# Altium integrated library ON Semi Zener Diodes.IntLib: 1366 symbols (part 1 of 29)
Pins are listed as number, name and electrical type; pins without a type are passive.

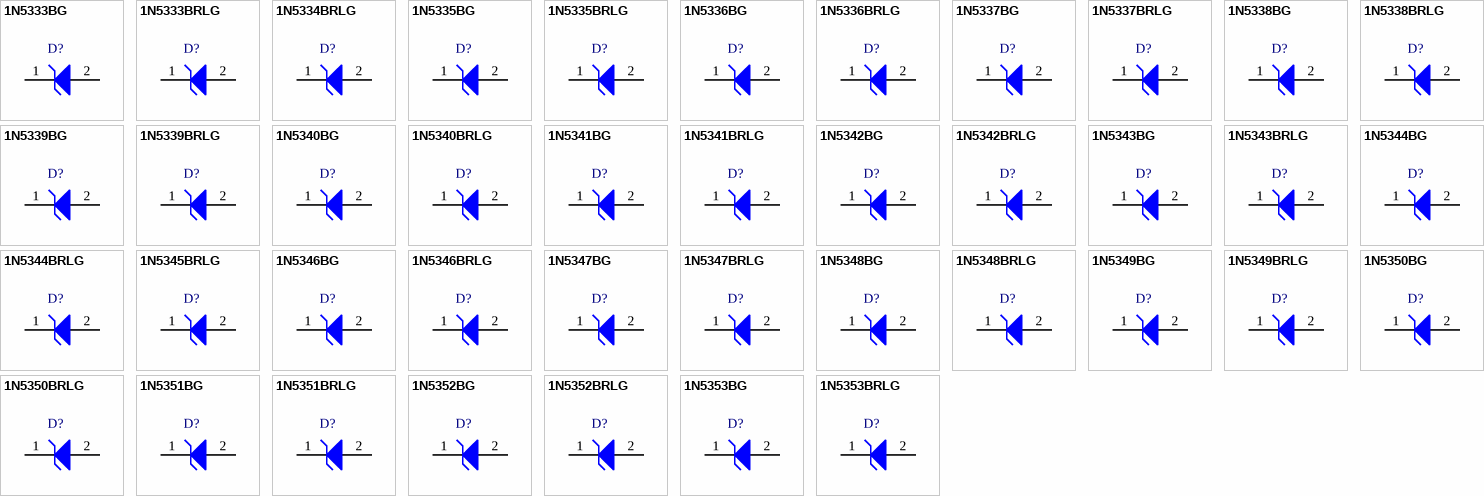
[diagram p0: symbols 1N5333BG to 1N5353BRLG]

## 1N5333BG
designator D?
5 W Zener Voltage Regulator, 2-Pin Surmetic(TM) 40, Pb-Free, Bulk Box; Manufacturer: On Semiconductor; PartNumber: 1N5333BG; P Max (W): 5; VZ Typ (V): 3.3; DatasheetVersion: Rev. 14; PackageVersion: Rev. O, 09/2005; PackageReference: SURMETIC40-2-017AA-01; PackageDescription: 2-Pin, Axial Lead, Diameter 3.49 mm; Supplier 1: Digi-Key; Supplier Part Number 1: 1N5333BGOS-ND; Supplier 2: Farnell; Supplier Part Number 2: 9557903; Supplier 3: Newark; Supplier Part Number 3: 42K2843; Supplier 4: Newark; Supplier Part Number 4: 39K0591; Supplier 5: Mouser; Supplier Part Number 5: 863-1N5333BG; Packing: Bulk Box; RoHS: Pb-Free; Mounting Technology: Through Hole; ComponentLink1Description: Manufacturer URL; ComponentLink1URL: http://www.onsemi.com/; ComponentLink2Description: Datasheet; ComponentLink2URL: http://www.onsemi.cn/pub_link/Collateral/1N5333B-D.PDF; ComponentLink3Description: Package Specification; ComponentLink3URL: http://www.onsemi.cn/pub_link/Collateral/017AA.PDF
footprint ONSC-SURMETIC40-2-017AA-01 (AXIAL, 2-Leads, Diameter 3.49mm)
pins: 1 K, 2 A

## 1N5333BRLG
designator D?
5 W Zener Voltage Regulator, 2-Pin Surmetic(TM) 40, Pb-Free, Tape and Reel; Manufacturer: On Semiconductor; PartNumber: 1N5333BRLG; P Max (W): 5; VZ Typ (V): 3.3; DatasheetVersion: Rev. 14; PackageVersion: Rev. O, 09/2005; PackageReference: SURMETIC40-2-017AA-01; PackageDescription: 2-Pin, Axial Lead, Diameter 3.49 mm; Supplier 1: Digi-Key; Supplier Part Number 1: 1N5333BRLGOSTR-ND; Supplier 2: Digi-Key; Supplier Part Number 2: 1N5333BRLGOSCT-ND; Supplier 3: Farnell; Supplier Part Number 3: 1899548; Supplier 4: Newark; Supplier Part Number 4: 42K2844; Supplier 5: Newark; Supplier Part Number 5: 10N9619; Supplier 6: Mouser; Supplier Part Number 6: 863-1N5333BRLG; Packing: Tape and Reel; RoHS: Pb-Free; Mounting Technology: Through Hole; ComponentLink1Description: Manufacturer URL; ComponentLink1URL: http://www.onsemi.com/; ComponentLink2Description: Datasheet; ComponentLink2URL: http://www.onsemi.cn/pub_link/Collateral/1N5333B-D.PDF; ComponentLink3Description: Package Specification; ComponentLink3URL: http://www.onsemi.cn/pub_link/Collateral/017AA.PDF
footprint ONSC-SURMETIC40-2-017AA-01 (AXIAL, 2-Leads, Diameter 3.49mm)
pins: 1 K, 2 A

## 1N5334BRLG
designator D?
5 W Zener Voltage Regulator, 2-Pin Surmetic(TM) 40, Pb-Free, Tape and Reel; Manufacturer: On Semiconductor; PartNumber: 1N5334BRLG; P Max (W): 5; VZ Typ (V): 3.6; DatasheetVersion: Rev. 14; PackageVersion: Rev. O, 09/2005; PackageReference: SURMETIC40-2-017AA-01; PackageDescription: 2-Pin, Axial Lead, Diameter 3.49 mm; Supplier 1: Digi-Key; Supplier Part Number 1: 1N5334BRLGOSTR-ND; Supplier 2: Digi-Key; Supplier Part Number 2: 1N5334BRLGOSCT-ND; Supplier 3: Farnell; Supplier Part Number 3: 2369363; Supplier 4: Farnell; Supplier Part Number 4: 1887113; Supplier 5: Newark; Supplier Part Number 5: 09R9751; Supplier 6: Mouser; Supplier Part Number 6: 863-1N5334BRLG; Packing: Tape and Reel; RoHS: Pb-Free; Mounting Technology: Through Hole; ComponentLink1Description: Manufacturer URL; ComponentLink1URL: http://www.onsemi.com/; ComponentLink2Description: Datasheet; ComponentLink2URL: http://www.onsemi.cn/pub_link/Collateral/1N5333B-D.PDF; ComponentLink3Description: Package Specification; ComponentLink3URL: http://www.onsemi.cn/pub_link/Collateral/017AA.PDF
footprint ONSC-SURMETIC40-2-017AA-01 (AXIAL, 2-Leads, Diameter 3.49mm)
pins: 1 K, 2 A

## 1N5335BG
designator D?
5 W Zener Voltage Regulator, 2-Pin Surmetic(TM) 40, Pb-Free, Bulk Box; Manufacturer: On Semiconductor; PartNumber: 1N5335BG; P Max (W): 5; VZ Typ (V): 3.9; DatasheetVersion: Rev. 14; PackageVersion: Rev. O, 09/2005; PackageReference: SURMETIC40-2-017AA-01; PackageDescription: 2-Pin, Axial Lead, Diameter 3.49 mm; Supplier 1: Digi-Key; Supplier Part Number 1: 1N5335BGOS-ND; Supplier 2: Farnell; Supplier Part Number 2: 9557920; Supplier 3: Newark; Supplier Part Number 3: 42K2847; Supplier 4: Mouser; Supplier Part Number 4: 863-1N5335BG; Packing: Bulk Box; RoHS: Pb-Free; Mounting Technology: Through Hole; ComponentLink1Description: Manufacturer URL; ComponentLink1URL: http://www.onsemi.com/; ComponentLink2Description: Datasheet; ComponentLink2URL: http://www.onsemi.cn/pub_link/Collateral/1N5333B-D.PDF; ComponentLink3Description: Package Specification; ComponentLink3URL: http://www.onsemi.cn/pub_link/Collateral/017AA.PDF
footprint ONSC-SURMETIC40-2-017AA-01 (AXIAL, 2-Leads, Diameter 3.49mm)
pins: 1 K, 2 A

## 1N5335BRLG
designator D?
5 W Zener Voltage Regulator, 2-Pin Surmetic(TM) 40, Pb-Free, Tape and Reel; Manufacturer: On Semiconductor; PartNumber: 1N5335BRLG; P Max (W): 5; VZ Typ (V): 3.9; DatasheetVersion: Rev. 14; PackageVersion: Rev. O, 09/2005; PackageReference: SURMETIC40-2-017AA-01; PackageDescription: 2-Pin, Axial Lead, Diameter 3.49 mm; Supplier 1: Digi-Key; Supplier Part Number 1: 1N5335BRLGOSTR-ND; Supplier 2: Digi-Key; Supplier Part Number 2: 1N5335BRLGOSCT-ND; Supplier 3: Farnell; Supplier Part Number 3: 2369364; Supplier 4: Newark; Supplier Part Number 4: 10N9620; Supplier 5: Mouser; Supplier Part Number 5: 863-1N5335BRLG; Packing: Tape and Reel; RoHS: Pb-Free; Mounting Technology: Through Hole; ComponentLink1Description: Manufacturer URL; ComponentLink1URL: http://www.onsemi.com/; ComponentLink2Description: Datasheet; ComponentLink2URL: http://www.onsemi.cn/pub_link/Collateral/1N5333B-D.PDF; ComponentLink3Description: Package Specification; ComponentLink3URL: http://www.onsemi.cn/pub_link/Collateral/017AA.PDF
footprint ONSC-SURMETIC40-2-017AA-01 (AXIAL, 2-Leads, Diameter 3.49mm)
pins: 1 K, 2 A

## 1N5336BG
designator D?
5 W Zener Voltage Regulator, 2-Pin Surmetic(TM) 40, Pb-Free, Bulk Box; Manufacturer: On Semiconductor; PartNumber: 1N5336BG; P Max (W): 5; VZ Typ (V): 4.3; DatasheetVersion: Rev. 14; PackageVersion: Rev. O, 09/2005; PackageReference: SURMETIC40-2-017AA-01; PackageDescription: 2-Pin, Axial Lead, Diameter 3.49 mm; Supplier 1: Digi-Key; Supplier Part Number 1: 1N5336BGOS-ND; Supplier 2: Farnell; Supplier Part Number 2: 9557938; Supplier 3: Newark; Supplier Part Number 3: 42K2849; Supplier 4: Mouser; Supplier Part Number 4: 863-1N5336BG; Packing: Bulk Box; RoHS: Pb-Free; Mounting Technology: Through Hole; ComponentLink1Description: Manufacturer URL; ComponentLink1URL: http://www.onsemi.com/; ComponentLink2Description: Datasheet; ComponentLink2URL: http://www.onsemi.cn/pub_link/Collateral/1N5333B-D.PDF; ComponentLink3Description: Package Specification; ComponentLink3URL: http://www.onsemi.cn/pub_link/Collateral/017AA.PDF
footprint ONSC-SURMETIC40-2-017AA-01 (AXIAL, 2-Leads, Diameter 3.49mm)
pins: 1 K, 2 A

## 1N5336BRLG
designator D?
5 W Zener Voltage Regulator, 2-Pin Surmetic(TM) 40, Pb-Free, Tape and Reel; Manufacturer: On Semiconductor; PartNumber: 1N5336BRLG; P Max (W): 5; VZ Typ (V): 4.3; DatasheetVersion: Rev. 14; PackageVersion: Rev. O, 09/2005; PackageReference: SURMETIC40-2-017AA-01; PackageDescription: 2-Pin, Axial Lead, Diameter 3.49 mm; Supplier 1: Digi-Key; Supplier Part Number 1: 1N5336BRLG-ND; Supplier 2: Newark; Supplier Part Number 2: 42K2850; Supplier 3: Mouser; Supplier Part Number 3: 863-1N5336BRLG; Packing: Tape and Reel; RoHS: Pb-Free; Mounting Technology: Through Hole; ComponentLink1Description: Manufacturer URL; ComponentLink1URL: http://www.onsemi.com/; ComponentLink2Description: Datasheet; ComponentLink2URL: http://www.onsemi.cn/pub_link/Collateral/1N5333B-D.PDF; ComponentLink3Description: Package Specification; ComponentLink3URL: http://www.onsemi.cn/pub_link/Collateral/017AA.PDF
footprint ONSC-SURMETIC40-2-017AA-01 (AXIAL, 2-Leads, Diameter 3.49mm)
pins: 1 K, 2 A

## 1N5337BG
designator D?
5 W Zener Voltage Regulator, 2-Pin Surmetic(TM) 40, Pb-Free, Bulk Box; Manufacturer: On Semiconductor; PartNumber: 1N5337BG; P Max (W): 5; VZ Typ (V): 4.7; DatasheetVersion: Rev. 14; PackageVersion: Rev. O, 09/2005; PackageReference: SURMETIC40-2-017AA-01; PackageDescription: 2-Pin, Axial Lead, Diameter 3.49 mm; Supplier 1: Digi-Key; Supplier Part Number 1: 1N5337BGOS-ND; Supplier 2: Farnell; Supplier Part Number 2: 9557946; Supplier 3: Newark; Supplier Part Number 3: 42K2851; Supplier 4: Mouser; Supplier Part Number 4: 863-1N5337BG; Packing: Bulk Box; RoHS: Pb-Free; Mounting Technology: Through Hole; ComponentLink1Description: Manufacturer URL; ComponentLink1URL: http://www.onsemi.com/; ComponentLink2Description: Datasheet; ComponentLink2URL: http://www.onsemi.cn/pub_link/Collateral/1N5333B-D.PDF; ComponentLink3Description: Package Specification; ComponentLink3URL: http://www.onsemi.cn/pub_link/Collateral/017AA.PDF
footprint ONSC-SURMETIC40-2-017AA-01 (AXIAL, 2-Leads, Diameter 3.49mm)
pins: 1 K, 2 A

## 1N5337BRLG
designator D?
5 W Zener Voltage Regulator, 2-Pin Surmetic(TM) 40, Pb-Free, Tape and Reel; Manufacturer: On Semiconductor; PartNumber: 1N5337BRLG; P Max (W): 5; VZ Typ (V): 4.7; DatasheetVersion: Rev. 14; PackageVersion: Rev. O, 09/2005; PackageReference: SURMETIC40-2-017AA-01; PackageDescription: 2-Pin, Axial Lead, Diameter 3.49 mm; Supplier 1: Digi-Key; Supplier Part Number 1: 1N5337BRLGOSTR-ND; Supplier 2: Digi-Key; Supplier Part Number 2: 1N5337BRLGOSCT-ND; Supplier 3: Farnell; Supplier Part Number 3: 2369365; Supplier 4: Newark; Supplier Part Number 4: 10N9621; Supplier 5: Newark; Supplier Part Number 5: 42K2852; Supplier 6: Mouser; Supplier Part Number 6: 863-1N5337BRLG; Packing: Tape and Reel; RoHS: Pb-Free; Mounting Technology: Through Hole; ComponentLink1Description: Manufacturer URL; ComponentLink1URL: http://www.onsemi.com/; ComponentLink2Description: Datasheet; ComponentLink2URL: http://www.onsemi.cn/pub_link/Collateral/1N5333B-D.PDF; ComponentLink3Description: Package Specification; ComponentLink3URL: http://www.onsemi.cn/pub_link/Collateral/017AA.PDF
footprint ONSC-SURMETIC40-2-017AA-01 (AXIAL, 2-Leads, Diameter 3.49mm)
pins: 1 K, 2 A

## 1N5338BG
designator D?
5 W Zener Voltage Regulator, 2-Pin Surmetic(TM) 40, Pb-Free, Bulk Box; Manufacturer: On Semiconductor; PartNumber: 1N5338BG; P Max (W): 5; VZ Typ (V): 5.1; DatasheetVersion: Rev. 14; PackageVersion: Rev. O, 09/2005; PackageReference: SURMETIC40-2-017AA-01; PackageDescription: 2-Pin, Axial Lead, Diameter 3.49 mm; Supplier 1: Digi-Key; Supplier Part Number 1: 1N5338BGOS-ND; Supplier 2: Farnell; Supplier Part Number 2: 9557954; Supplier 3: Newark; Supplier Part Number 3: 42K2853; Supplier 4: Mouser; Supplier Part Number 4: 863-1N5338BG; Packing: Bulk Box; RoHS: Pb-Free; Mounting Technology: Through Hole; ComponentLink1Description: Manufacturer URL; ComponentLink1URL: http://www.onsemi.com/; ComponentLink2Description: Datasheet; ComponentLink2URL: http://www.onsemi.cn/pub_link/Collateral/1N5333B-D.PDF; ComponentLink3Description: Package Specification; ComponentLink3URL: http://www.onsemi.cn/pub_link/Collateral/017AA.PDF
footprint ONSC-SURMETIC40-2-017AA-01 (AXIAL, 2-Leads, Diameter 3.49mm)
pins: 1 K, 2 A

## 1N5338BRLG
designator D?
5 W Zener Voltage Regulator, 2-Pin Surmetic(TM) 40, Pb-Free, Tape and Reel; Manufacturer: On Semiconductor; PartNumber: 1N5338BRLG; P Max (W): 5; VZ Typ (V): 5.1; DatasheetVersion: Rev. 14; PackageVersion: Rev. O, 09/2005; PackageReference: SURMETIC40-2-017AA-01; PackageDescription: 2-Pin, Axial Lead, Diameter 3.49 mm; Supplier 1: Digi-Key; Supplier Part Number 1: 1N5338BRLGOSTR-ND; Supplier 2: Digi-Key; Supplier Part Number 2: 1N5338BRLGOSCT-ND; Supplier 3: Farnell; Supplier Part Number 3: 2317463; Supplier 4: Farnell; Supplier Part Number 4: 1899549; Supplier 5: Newark; Supplier Part Number 5: 10N9622; Supplier 6: Newark; Supplier Part Number 6: 42K2854; Supplier 7: Mouser; Supplier Part Number 7: 863-1N5338BRLG; Packing: Tape and Reel; RoHS: Pb-Free; Mounting Technology: Through Hole; ComponentLink1Description: Manufacturer URL; ComponentLink1URL: http://www.onsemi.com/; ComponentLink2Description: Datasheet; ComponentLink2URL: http://www.onsemi.cn/pub_link/Collateral/1N5333B-D.PDF; ComponentLink3Description: Package Specification; ComponentLink3URL: http://www.onsemi.cn/pub_link/Collateral/017AA.PDF
footprint ONSC-SURMETIC40-2-017AA-01 (AXIAL, 2-Leads, Diameter 3.49mm)
pins: 1 K, 2 A

## 1N5339BG
designator D?
5 W Zener Voltage Regulator, 2-Pin Surmetic(TM) 40, Pb-Free, Bulk Box; Manufacturer: On Semiconductor; PartNumber: 1N5339BG; P Max (W): 5; VZ Typ (V): 5.6; DatasheetVersion: Rev. 14; PackageVersion: Rev. O, 09/2005; PackageReference: SURMETIC40-2-017AA-01; PackageDescription: 2-Pin, Axial Lead, Diameter 3.49 mm; Supplier 1: Digi-Key; Supplier Part Number 1: 1N5339BGOS-ND; Supplier 2: Farnell; Supplier Part Number 2: 9557962; Supplier 3: Newark; Supplier Part Number 3: 42K2855; Supplier 4: Mouser; Supplier Part Number 4: 863-1N5339BG; Packing: Bulk Box; RoHS: Pb-Free; Mounting Technology: Through Hole; ComponentLink1Description: Manufacturer URL; ComponentLink1URL: http://www.onsemi.com/; ComponentLink2Description: Datasheet; ComponentLink2URL: http://www.onsemi.cn/pub_link/Collateral/1N5333B-D.PDF; ComponentLink3Description: Package Specification; ComponentLink3URL: http://www.onsemi.cn/pub_link/Collateral/017AA.PDF
footprint ONSC-SURMETIC40-2-017AA-01 (AXIAL, 2-Leads, Diameter 3.49mm)
pins: 1 K, 2 A

## 1N5339BRLG
designator D?
5 W Zener Voltage Regulator, 2-Pin Surmetic(TM) 40, Pb-Free, Tape and Reel; Manufacturer: On Semiconductor; PartNumber: 1N5339BRLG; P Max (W): 5; VZ Typ (V): 5.6; DatasheetVersion: Rev. 14; PackageVersion: Rev. O, 09/2005; PackageReference: SURMETIC40-2-017AA-01; PackageDescription: 2-Pin, Axial Lead, Diameter 3.49 mm; Supplier 1: Digi-Key; Supplier Part Number 1: 1N5339BRLGOSTR-ND; Supplier 2: Digi-Key; Supplier Part Number 2: 1N5339BRLGOSCT-ND; Supplier 3: Farnell; Supplier Part Number 3: 2101822; Supplier 4: Newark; Supplier Part Number 4: 42K2856; Supplier 5: Newark; Supplier Part Number 5: 06R3480; Supplier 6: Mouser; Supplier Part Number 6: 863-1N5339BRLG; Packing: Tape and Reel; RoHS: Pb-Free; Mounting Technology: Through Hole; ComponentLink1Description: Manufacturer URL; ComponentLink1URL: http://www.onsemi.com/; ComponentLink2Description: Datasheet; ComponentLink2URL: http://www.onsemi.cn/pub_link/Collateral/1N5333B-D.PDF; ComponentLink3Description: Package Specification; ComponentLink3URL: http://www.onsemi.cn/pub_link/Collateral/017AA.PDF
footprint ONSC-SURMETIC40-2-017AA-01 (AXIAL, 2-Leads, Diameter 3.49mm)
pins: 1 K, 2 A

## 1N5340BG
designator D?
5 W Zener Voltage Regulator, 2-Pin Surmetic(TM) 40, Pb-Free, Bulk Box; Manufacturer: On Semiconductor; PartNumber: 1N5340BG; P Max (W): 5; VZ Typ (V): 6; DatasheetVersion: Rev. 14; PackageVersion: Rev. O, 09/2005; PackageReference: SURMETIC40-2-017AA-01; PackageDescription: 2-Pin, Axial Lead, Diameter 3.49 mm; Supplier 1: Digi-Key; Supplier Part Number 1: 1N5340BGOS-ND; Supplier 2: Farnell; Supplier Part Number 2: 9557970; Supplier 3: Newark; Supplier Part Number 3: 42K2857; Supplier 4: Newark; Supplier Part Number 4: 39K0598; Supplier 5: Mouser; Supplier Part Number 5: 863-1N5340BG; Packing: Bulk Box; RoHS: Pb-Free; Mounting Technology: Through Hole; ComponentLink1Description: Manufacturer URL; ComponentLink1URL: http://www.onsemi.com/; ComponentLink2Description: Datasheet; ComponentLink2URL: http://www.onsemi.cn/pub_link/Collateral/1N5333B-D.PDF; ComponentLink3Description: Package Specification; ComponentLink3URL: http://www.onsemi.cn/pub_link/Collateral/017AA.PDF
footprint ONSC-SURMETIC40-2-017AA-01 (AXIAL, 2-Leads, Diameter 3.49mm)
pins: 1 K, 2 A

## 1N5340BRLG
designator D?
5 W Zener Voltage Regulator, 2-Pin Surmetic(TM) 40, Pb-Free, Tape and Reel; Manufacturer: On Semiconductor; PartNumber: 1N5340BRLG; P Max (W): 5; VZ Typ (V): 6; DatasheetVersion: Rev. 14; PackageVersion: Rev. O, 09/2005; PackageReference: SURMETIC40-2-017AA-01; PackageDescription: 2-Pin, Axial Lead, Diameter 3.49 mm; Supplier 1: Digi-Key; Supplier Part Number 1: 1N5340BRLGOSTR-ND; Supplier 2: Digi-Key; Supplier Part Number 2: 1N5340BRLGOSCT-ND; Supplier 3: Newark; Supplier Part Number 3: 42K2858; Supplier 4: Mouser; Supplier Part Number 4: 863-1N5340BRLG; Packing: Tape and Reel; RoHS: Pb-Free; Mounting Technology: Through Hole; ComponentLink1Description: Manufacturer URL; ComponentLink1URL: http://www.onsemi.com/; ComponentLink2Description: Datasheet; ComponentLink2URL: http://www.onsemi.cn/pub_link/Collateral/1N5333B-D.PDF; ComponentLink3Description: Package Specification; ComponentLink3URL: http://www.onsemi.cn/pub_link/Collateral/017AA.PDF
footprint ONSC-SURMETIC40-2-017AA-01 (AXIAL, 2-Leads, Diameter 3.49mm)
pins: 1 K, 2 A

## 1N5341BG
designator D?
5 W Zener Voltage Regulator, 2-Pin Surmetic(TM) 40, Pb-Free, Bulk Box; Manufacturer: On Semiconductor; PartNumber: 1N5341BG; P Max (W): 5; VZ Typ (V): 6.2; DatasheetVersion: Rev. 14; PackageVersion: Rev. O, 09/2005; PackageReference: SURMETIC40-2-017AA-01; PackageDescription: 2-Pin, Axial Lead, Diameter 3.49 mm; Supplier 1: Digi-Key; Supplier Part Number 1: 1N5341BGOS-ND; Supplier 2: Farnell; Supplier Part Number 2: 9557989; Supplier 3: Newark; Supplier Part Number 3: 42K2859; Supplier 4: Mouser; Supplier Part Number 4: 863-1N5341BG; Packing: Bulk Box; RoHS: Pb-Free; Mounting Technology: Through Hole; ComponentLink1Description: Manufacturer URL; ComponentLink1URL: http://www.onsemi.com/; ComponentLink2Description: Datasheet; ComponentLink2URL: http://www.onsemi.cn/pub_link/Collateral/1N5333B-D.PDF; ComponentLink3Description: Package Specification; ComponentLink3URL: http://www.onsemi.cn/pub_link/Collateral/017AA.PDF
footprint ONSC-SURMETIC40-2-017AA-01 (AXIAL, 2-Leads, Diameter 3.49mm)
pins: 1 K, 2 A

## 1N5341BRLG
designator D?
5 W Zener Voltage Regulator, 2-Pin Surmetic(TM) 40, Pb-Free, Tape and Reel; Manufacturer: On Semiconductor; PartNumber: 1N5341BRLG; P Max (W): 5; VZ Typ (V): 6.2; DatasheetVersion: Rev. 14; PackageVersion: Rev. O, 09/2005; PackageReference: SURMETIC40-2-017AA-01; PackageDescription: 2-Pin, Axial Lead, Diameter 3.49 mm; Supplier 1: Digi-Key; Supplier Part Number 1: 1N5341BRLGOSTR-ND; Supplier 2: Digi-Key; Supplier Part Number 2: 1N5341BRLGOSCT-ND; Supplier 3: Farnell; Supplier Part Number 3: 2101823; Supplier 4: Newark; Supplier Part Number 4: 42K2860; Supplier 5: Newark; Supplier Part Number 5: 94T5958; Supplier 6: Mouser; Supplier Part Number 6: 863-1N5341BRLG; Packing: Tape and Reel; RoHS: Pb-Free; Mounting Technology: Through Hole; ComponentLink1Description: Manufacturer URL; ComponentLink1URL: http://www.onsemi.com/; ComponentLink2Description: Datasheet; ComponentLink2URL: http://www.onsemi.cn/pub_link/Collateral/1N5333B-D.PDF; ComponentLink3Description: Package Specification; ComponentLink3URL: http://www.onsemi.cn/pub_link/Collateral/017AA.PDF
footprint ONSC-SURMETIC40-2-017AA-01 (AXIAL, 2-Leads, Diameter 3.49mm)
pins: 1 K, 2 A

## 1N5342BG
designator D?
5 W Zener Voltage Regulator, 2-Pin Surmetic(TM) 40, Pb-Free, Bulk Box; Manufacturer: On Semiconductor; PartNumber: 1N5342BG; P Max (W): 5; VZ Typ (V): 6.8; DatasheetVersion: Rev. 14; PackageVersion: Rev. O, 09/2005; PackageReference: SURMETIC40-2-017AA-01; PackageDescription: 2-Pin, Axial Lead, Diameter 3.49 mm; Supplier 1: Digi-Key; Supplier Part Number 1: 1N5342BGOS-ND; Supplier 2: Farnell; Supplier Part Number 2: 9557997; Supplier 3: Newark; Supplier Part Number 3: 42K2861; Supplier 4: Mouser; Supplier Part Number 4: 863-1N5342BG; Packing: Bulk Box; RoHS: Pb-Free; Mounting Technology: Through Hole; ComponentLink1Description: Manufacturer URL; ComponentLink1URL: http://www.onsemi.com/; ComponentLink2Description: Datasheet; ComponentLink2URL: http://www.onsemi.cn/pub_link/Collateral/1N5333B-D.PDF; ComponentLink3Description: Package Specification; ComponentLink3URL: http://www.onsemi.cn/pub_link/Collateral/017AA.PDF
footprint ONSC-SURMETIC40-2-017AA-01 (AXIAL, 2-Leads, Diameter 3.49mm)
pins: 1 K, 2 A

## 1N5342BRLG
designator D?
5 W Zener Voltage Regulator, 2-Pin Surmetic(TM) 40, Pb-Free, Tape and Reel; Manufacturer: On Semiconductor; PartNumber: 1N5342BRLG; P Max (W): 5; VZ Typ (V): 6.8; DatasheetVersion: Rev. 14; PackageVersion: Rev. O, 09/2005; PackageReference: SURMETIC40-2-017AA-01; PackageDescription: 2-Pin, Axial Lead, Diameter 3.49 mm; Supplier 1: Digi-Key; Supplier Part Number 1: 1N5342BRLGOSTR-ND; Supplier 2: Digi-Key; Supplier Part Number 2: 1N5342BRLGOSCT-ND; Supplier 3: Farnell; Supplier Part Number 3: 2317460; Supplier 4: Farnell; Supplier Part Number 4: 2369366; Supplier 5: Newark; Supplier Part Number 5: 10N9623; Supplier 6: Newark; Supplier Part Number 6: 42K2862; Supplier 7: Mouser; Supplier Part Number 7: 863-1N5342BRLG; Packing: Tape and Reel; RoHS: Pb-Free; Mounting Technology: Through Hole; ComponentLink1Description: Manufacturer URL; ComponentLink1URL: http://www.onsemi.com/; ComponentLink2Description: Datasheet; ComponentLink2URL: http://www.onsemi.cn/pub_link/Collateral/1N5333B-D.PDF; ComponentLink3Description: Package Specification; ComponentLink3URL: http://www.onsemi.cn/pub_link/Collateral/017AA.PDF
footprint ONSC-SURMETIC40-2-017AA-01 (AXIAL, 2-Leads, Diameter 3.49mm)
pins: 1 K, 2 A

## 1N5343BG
designator D?
5 W Zener Voltage Regulator, 2-Pin Surmetic(TM) 40, Pb-Free, Bulk Box; Manufacturer: On Semiconductor; PartNumber: 1N5343BG; P Max (W): 5; VZ Typ (V): 7.5; DatasheetVersion: Rev. 14; PackageVersion: Rev. O, 09/2005; PackageReference: SURMETIC40-2-017AA-01; PackageDescription: 2-Pin, Axial Lead, Diameter 3.49 mm; Supplier 1: Digi-Key; Supplier Part Number 1: 1N5343BGOS-ND; Supplier 2: Farnell; Supplier Part Number 2: 9558012; Supplier 3: Newark; Supplier Part Number 3: 42K2863; Supplier 4: Newark; Supplier Part Number 4: 39K0601; Supplier 5: Mouser; Supplier Part Number 5: 863-1N5343BG; Packing: Bulk Box; RoHS: Pb-Free; Mounting Technology: Through Hole; ComponentLink1Description: Manufacturer URL; ComponentLink1URL: http://www.onsemi.com/; ComponentLink2Description: Datasheet; ComponentLink2URL: http://www.onsemi.cn/pub_link/Collateral/1N5333B-D.PDF; ComponentLink3Description: Package Specification; ComponentLink3URL: http://www.onsemi.cn/pub_link/Collateral/017AA.PDF
footprint ONSC-SURMETIC40-2-017AA-01 (AXIAL, 2-Leads, Diameter 3.49mm)
pins: 1 K, 2 A

## 1N5343BRLG
designator D?
5 W Zener Voltage Regulator, 2-Pin Surmetic(TM) 40, Pb-Free, Tape and Reel; Manufacturer: On Semiconductor; PartNumber: 1N5343BRLG; P Max (W): 5; VZ Typ (V): 7.5; DatasheetVersion: Rev. 14; PackageVersion: Rev. O, 09/2005; PackageReference: SURMETIC40-2-017AA-01; PackageDescription: 2-Pin, Axial Lead, Diameter 3.49 mm; Supplier 1: Digi-Key; Supplier Part Number 1: 1N5343BRLGOSTR-ND; Supplier 2: Digi-Key; Supplier Part Number 2: 1N5343BRLGOSCT-ND; Supplier 3: Newark; Supplier Part Number 3: 10N9624; Supplier 4: Newark; Supplier Part Number 4: 42K2864; Supplier 5: Mouser; Supplier Part Number 5: 863-1N5343BRLG; Packing: Tape and Reel; RoHS: Pb-Free; Mounting Technology: Through Hole; ComponentLink1Description: Manufacturer URL; ComponentLink1URL: http://www.onsemi.com/; ComponentLink2Description: Datasheet; ComponentLink2URL: http://www.onsemi.cn/pub_link/Collateral/1N5333B-D.PDF; ComponentLink3Description: Package Specification; ComponentLink3URL: http://www.onsemi.cn/pub_link/Collateral/017AA.PDF
footprint ONSC-SURMETIC40-2-017AA-01 (AXIAL, 2-Leads, Diameter 3.49mm)
pins: 1 K, 2 A

## 1N5344BG
designator D?
5 W Zener Voltage Regulator, 2-Pin Surmetic(TM) 40, Pb-Free, Bulk Box; Manufacturer: On Semiconductor; PartNumber: 1N5344BG; P Max (W): 5; VZ Typ (V): 8.2; DatasheetVersion: Rev. 14; PackageVersion: Rev. O, 09/2005; PackageReference: SURMETIC40-2-017AA-01; PackageDescription: 2-Pin, Axial Lead, Diameter 3.49 mm; Supplier 1: Digi-Key; Supplier Part Number 1: 1N5344BGOS-ND; Supplier 2: Farnell; Supplier Part Number 2: 9558020; Supplier 3: Newark; Supplier Part Number 3: 42K2865; Supplier 4: Newark; Supplier Part Number 4: 39K0602; Supplier 5: Mouser; Supplier Part Number 5: 863-1N5344BG; Packing: Bulk Box; RoHS: Pb-Free; Mounting Technology: Through Hole; ComponentLink1Description: Manufacturer URL; ComponentLink1URL: http://www.onsemi.com/; ComponentLink2Description: Datasheet; ComponentLink2URL: http://www.onsemi.cn/pub_link/Collateral/1N5333B-D.PDF; ComponentLink3Description: Package Specification; ComponentLink3URL: http://www.onsemi.cn/pub_link/Collateral/017AA.PDF
footprint ONSC-SURMETIC40-2-017AA-01 (AXIAL, 2-Leads, Diameter 3.49mm)
pins: 1 K, 2 A

## 1N5344BRLG
designator D?
5 W Zener Voltage Regulator, 2-Pin Surmetic(TM) 40, Pb-Free, Tape and Reel; Manufacturer: On Semiconductor; PartNumber: 1N5344BRLG; P Max (W): 5; VZ Typ (V): 8.2; DatasheetVersion: Rev. 14; PackageVersion: Rev. O, 09/2005; PackageReference: SURMETIC40-2-017AA-01; PackageDescription: 2-Pin, Axial Lead, Diameter 3.49 mm; Supplier 1: Digi-Key; Supplier Part Number 1: 1N5344BRLGOSTR-ND; Supplier 2: Digi-Key; Supplier Part Number 2: 1N5344BRLGOSCT-ND; Supplier 3: Farnell; Supplier Part Number 3: 2317467; Supplier 4: Newark; Supplier Part Number 4: 42K2866; Supplier 5: Mouser; Supplier Part Number 5: 863-1N5344BRLG; Packing: Tape and Reel; RoHS: Pb-Free; Mounting Technology: Through Hole; ComponentLink1Description: Manufacturer URL; ComponentLink1URL: http://www.onsemi.com/; ComponentLink2Description: Datasheet; ComponentLink2URL: http://www.onsemi.cn/pub_link/Collateral/1N5333B-D.PDF; ComponentLink3Description: Package Specification; ComponentLink3URL: http://www.onsemi.cn/pub_link/Collateral/017AA.PDF
footprint ONSC-SURMETIC40-2-017AA-01 (AXIAL, 2-Leads, Diameter 3.49mm)
pins: 1 K, 2 A

## 1N5345BRLG
designator D?
5 W Zener Voltage Regulator, 2-Pin Surmetic(TM) 40, Pb-Free, Tape and Reel; Manufacturer: On Semiconductor; PartNumber: 1N5345BRLG; P Max (W): 5; VZ Typ (V): 8.7; DatasheetVersion: Rev. 14; PackageVersion: Rev. O, 09/2005; PackageReference: SURMETIC40-2-017AA-01; PackageDescription: 2-Pin, Axial Lead, Diameter 3.49 mm; Supplier 1: Digi-Key; Supplier Part Number 1: 1N5345BRLGOSTR-ND; Supplier 2: Digi-Key; Supplier Part Number 2: 1N5345BRLGOSCT-ND; Supplier 3: Newark; Supplier Part Number 3: 10N9625; Supplier 4: Mouser; Supplier Part Number 4: 863-1N5345BRLG; Packing: Tape and Reel; RoHS: Pb-Free; Mounting Technology: Through Hole; ComponentLink1Description: Manufacturer URL; ComponentLink1URL: http://www.onsemi.com/; ComponentLink2Description: Datasheet; ComponentLink2URL: http://www.onsemi.cn/pub_link/Collateral/1N5333B-D.PDF; ComponentLink3Description: Package Specification; ComponentLink3URL: http://www.onsemi.cn/pub_link/Collateral/017AA.PDF
footprint ONSC-SURMETIC40-2-017AA-01 (AXIAL, 2-Leads, Diameter 3.49mm)
pins: 1 K, 2 A

## 1N5346BG
designator D?
5 W Zener Voltage Regulator, 2-Pin Surmetic(TM) 40, Pb-Free, Bulk Box; Manufacturer: On Semiconductor; PartNumber: 1N5346BG; P Max (W): 5; VZ Typ (V): 9.1; DatasheetVersion: Rev. 14; PackageVersion: Rev. O, 09/2005; PackageReference: SURMETIC40-2-017AA-01; PackageDescription: 2-Pin, Axial Lead, Diameter 3.49 mm; Supplier 1: Digi-Key; Supplier Part Number 1: 1N5346BGOS-ND; Supplier 2: Farnell; Supplier Part Number 2: 9558047; Supplier 3: Newark; Supplier Part Number 3: 42K2868; Supplier 4: Mouser; Supplier Part Number 4: 863-1N5346BG; Packing: Bulk Box; RoHS: Pb-Free; Mounting Technology: Through Hole; ComponentLink1Description: Manufacturer URL; ComponentLink1URL: http://www.onsemi.com/; ComponentLink2Description: Datasheet; ComponentLink2URL: http://www.onsemi.cn/pub_link/Collateral/1N5333B-D.PDF; ComponentLink3Description: Package Specification; ComponentLink3URL: http://www.onsemi.cn/pub_link/Collateral/017AA.PDF
footprint ONSC-SURMETIC40-2-017AA-01 (AXIAL, 2-Leads, Diameter 3.49mm)
pins: 1 K, 2 A

## 1N5346BRLG
designator D?
5 W Zener Voltage Regulator, 2-Pin Surmetic(TM) 40, Pb-Free, Tape and Reel; Manufacturer: On Semiconductor; PartNumber: 1N5346BRLG; P Max (W): 5; VZ Typ (V): 9.1; DatasheetVersion: Rev. 14; PackageVersion: Rev. O, 09/2005; PackageReference: SURMETIC40-2-017AA-01; PackageDescription: 2-Pin, Axial Lead, Diameter 3.49 mm; Supplier 1: Digi-Key; Supplier Part Number 1: 1N5346BRLGOSTR-ND; Supplier 2: Digi-Key; Supplier Part Number 2: 1N5346BRLGOSCT-ND; Supplier 3: Newark; Supplier Part Number 3: 10N9626; Supplier 4: Newark; Supplier Part Number 4: 42K2869; Supplier 5: Mouser; Supplier Part Number 5: 863-1N5346BRLG; Packing: Tape and Reel; RoHS: Pb-Free; Mounting Technology: Through Hole; ComponentLink1Description: Manufacturer URL; ComponentLink1URL: http://www.onsemi.com/; ComponentLink2Description: Datasheet; ComponentLink2URL: http://www.onsemi.cn/pub_link/Collateral/1N5333B-D.PDF; ComponentLink3Description: Package Specification; ComponentLink3URL: http://www.onsemi.cn/pub_link/Collateral/017AA.PDF
footprint ONSC-SURMETIC40-2-017AA-01 (AXIAL, 2-Leads, Diameter 3.49mm)
pins: 1 K, 2 A

## 1N5347BG
designator D?
5 W Zener Voltage Regulator, 2-Pin Surmetic(TM) 40, Pb-Free, Bulk Box; Manufacturer: On Semiconductor; PartNumber: 1N5347BG; P Max (W): 5; VZ Typ (V): 10; DatasheetVersion: Rev. 14; PackageVersion: Rev. O, 09/2005; PackageReference: SURMETIC40-2-017AA-01; PackageDescription: 2-Pin, Axial Lead, Diameter 3.49 mm; Supplier 1: Digi-Key; Supplier Part Number 1: 1N5347BGOS-ND; Supplier 2: Farnell; Supplier Part Number 2: 9558055; Supplier 3: Newark; Supplier Part Number 3: 42K2870; Supplier 4: Mouser; Supplier Part Number 4: 863-1N5347BG; Packing: Bulk Box; RoHS: Pb-Free; Mounting Technology: Through Hole; ComponentLink1Description: Manufacturer URL; ComponentLink1URL: http://www.onsemi.com/; ComponentLink2Description: Datasheet; ComponentLink2URL: http://www.onsemi.cn/pub_link/Collateral/1N5333B-D.PDF; ComponentLink3Description: Package Specification; ComponentLink3URL: http://www.onsemi.cn/pub_link/Collateral/017AA.PDF
footprint ONSC-SURMETIC40-2-017AA-01 (AXIAL, 2-Leads, Diameter 3.49mm)
pins: 1 K, 2 A

## 1N5347BRLG
designator D?
5 W Zener Voltage Regulator, 2-Pin Surmetic(TM) 40, Pb-Free, Tape and Reel; Manufacturer: On Semiconductor; PartNumber: 1N5347BRLG; P Max (W): 5; VZ Typ (V): 10; DatasheetVersion: Rev. 14; PackageVersion: Rev. O, 09/2005; PackageReference: SURMETIC40-2-017AA-01; PackageDescription: 2-Pin, Axial Lead, Diameter 3.49 mm; Supplier 1: Digi-Key; Supplier Part Number 1: 1N5347BRLGOSTR-ND; Supplier 2: Digi-Key; Supplier Part Number 2: 1N5347BRLGOSCT-ND; Supplier 3: Farnell; Supplier Part Number 3: 2101207; Supplier 4: Newark; Supplier Part Number 4: 42K2871; Supplier 5: Mouser; Supplier Part Number 5: 863-1N5347BRLG; Packing: Tape and Reel; RoHS: Pb-Free; Mounting Technology: Through Hole; ComponentLink1Description: Manufacturer URL; ComponentLink1URL: http://www.onsemi.com/; ComponentLink2Description: Datasheet; ComponentLink2URL: http://www.onsemi.cn/pub_link/Collateral/1N5333B-D.PDF; ComponentLink3Description: Package Specification; ComponentLink3URL: http://www.onsemi.cn/pub_link/Collateral/017AA.PDF
footprint ONSC-SURMETIC40-2-017AA-01 (AXIAL, 2-Leads, Diameter 3.49mm)
pins: 1 K, 2 A

## 1N5348BG
designator D?
5 W Zener Voltage Regulator, 2-Pin Surmetic(TM) 40, Pb-Free, Bulk Box; Manufacturer: On Semiconductor; PartNumber: 1N5348BG; P Max (W): 5; VZ Typ (V): 11; DatasheetVersion: Rev. 14; PackageVersion: Rev. O, 09/2005; PackageReference: SURMETIC40-2-017AA-01; PackageDescription: 2-Pin, Axial Lead, Diameter 3.49 mm; Supplier 1: Digi-Key; Supplier Part Number 1: 1N5348BGOS-ND; Supplier 2: Farnell; Supplier Part Number 2: 9558063; Supplier 3: Newark; Supplier Part Number 3: 42K2872; Supplier 4: Mouser; Supplier Part Number 4: 863-1N5348BG; Packing: Bulk Box; RoHS: Pb-Free; Mounting Technology: Through Hole; ComponentLink1Description: Manufacturer URL; ComponentLink1URL: http://www.onsemi.com/; ComponentLink2Description: Datasheet; ComponentLink2URL: http://www.onsemi.cn/pub_link/Collateral/1N5333B-D.PDF; ComponentLink3Description: Package Specification; ComponentLink3URL: http://www.onsemi.cn/pub_link/Collateral/017AA.PDF
footprint ONSC-SURMETIC40-2-017AA-01 (AXIAL, 2-Leads, Diameter 3.49mm)
pins: 1 K, 2 A

## 1N5348BRLG
designator D?
5 W Zener Voltage Regulator, 2-Pin Surmetic(TM) 40, Pb-Free, Tape and Reel; Manufacturer: On Semiconductor; PartNumber: 1N5348BRLG; P Max (W): 5; VZ Typ (V): 11; DatasheetVersion: Rev. 14; PackageVersion: Rev. O, 09/2005; PackageReference: SURMETIC40-2-017AA-01; PackageDescription: 2-Pin, Axial Lead, Diameter 3.49 mm; Supplier 1: Digi-Key; Supplier Part Number 1: 1N5348BRLGOSTR-ND; Supplier 2: Digi-Key; Supplier Part Number 2: 1N5348BRLGOSCT-ND; Supplier 3: Mouser; Supplier Part Number 3: 863-1N5348BRLG; Packing: Tape and Reel; RoHS: Pb-Free; Mounting Technology: Through Hole; ComponentLink1Description: Manufacturer URL; ComponentLink1URL: http://www.onsemi.com/; ComponentLink2Description: Datasheet; ComponentLink2URL: http://www.onsemi.cn/pub_link/Collateral/1N5333B-D.PDF; ComponentLink3Description: Package Specification; ComponentLink3URL: http://www.onsemi.cn/pub_link/Collateral/017AA.PDF
footprint ONSC-SURMETIC40-2-017AA-01 (AXIAL, 2-Leads, Diameter 3.49mm)
pins: 1 K, 2 A

## 1N5349BG
designator D?
5 W Zener Voltage Regulator, 2-Pin Surmetic(TM) 40, Pb-Free, Bulk Box; Manufacturer: On Semiconductor; PartNumber: 1N5349BG; P Max (W): 5; VZ Typ (V): 12; DatasheetVersion: Rev. 14; PackageVersion: Rev. O, 09/2005; PackageReference: SURMETIC40-2-017AA-01; PackageDescription: 2-Pin, Axial Lead, Diameter 3.49 mm; Supplier 1: Digi-Key; Supplier Part Number 1: 1N5349BGOS-ND; Supplier 2: Farnell; Supplier Part Number 2: 9558071; Supplier 3: Newark; Supplier Part Number 3: 42K2874; Supplier 4: Mouser; Supplier Part Number 4: 863-1N5349BG; Packing: Bulk Box; RoHS: Pb-Free; Mounting Technology: Through Hole; ComponentLink1Description: Manufacturer URL; ComponentLink1URL: http://www.onsemi.com/; ComponentLink2Description: Datasheet; ComponentLink2URL: http://www.onsemi.cn/pub_link/Collateral/1N5333B-D.PDF; ComponentLink3Description: Package Specification; ComponentLink3URL: http://www.onsemi.cn/pub_link/Collateral/017AA.PDF
footprint ONSC-SURMETIC40-2-017AA-01 (AXIAL, 2-Leads, Diameter 3.49mm)
pins: 1 K, 2 A

## 1N5349BRLG
designator D?
5 W Zener Voltage Regulator, 2-Pin Surmetic(TM) 40, Pb-Free, Tape and Reel; Manufacturer: On Semiconductor; PartNumber: 1N5349BRLG; P Max (W): 5; VZ Typ (V): 12; DatasheetVersion: Rev. 14; PackageVersion: Rev. O, 09/2005; PackageReference: SURMETIC40-2-017AA-01; PackageDescription: 2-Pin, Axial Lead, Diameter 3.49 mm; Supplier 1: Digi-Key; Supplier Part Number 1: 1N5349BRLGOSTR-ND; Supplier 2: Digi-Key; Supplier Part Number 2: 1N5349BRLGOSCT-ND; Supplier 3: Farnell; Supplier Part Number 3: 2317458; Supplier 4: Newark; Supplier Part Number 4: 04M7524; Supplier 5: Newark; Supplier Part Number 5: 42K2875; Supplier 6: Mouser; Supplier Part Number 6: 863-1N5349BRLG; Packing: Tape and Reel; RoHS: Pb-Free; Mounting Technology: Through Hole; ComponentLink1Description: Manufacturer URL; ComponentLink1URL: http://www.onsemi.com/; ComponentLink2Description: Datasheet; ComponentLink2URL: http://www.onsemi.cn/pub_link/Collateral/1N5333B-D.PDF; ComponentLink3Description: Package Specification; ComponentLink3URL: http://www.onsemi.cn/pub_link/Collateral/017AA.PDF
footprint ONSC-SURMETIC40-2-017AA-01 (AXIAL, 2-Leads, Diameter 3.49mm)
pins: 1 K, 2 A

## 1N5350BG
designator D?
5 W Zener Voltage Regulator, 2-Pin Surmetic(TM) 40, Pb-Free, Bulk Box; Manufacturer: On Semiconductor; PartNumber: 1N5350BG; P Max (W): 5; VZ Typ (V): 13; DatasheetVersion: Rev. 14; PackageVersion: Rev. O, 09/2005; PackageReference: SURMETIC40-2-017AA-01; PackageDescription: 2-Pin, Axial Lead, Diameter 3.49 mm; Supplier 1: Digi-Key; Supplier Part Number 1: 1N5350BGOS-ND; Supplier 2: Farnell; Supplier Part Number 2: 9558080; Supplier 3: Newark; Supplier Part Number 3: 42K2876; Supplier 4: Mouser; Supplier Part Number 4: 863-1N5350BG; Packing: Bulk Box; RoHS: Pb-Free; Mounting Technology: Through Hole; ComponentLink1Description: Manufacturer URL; ComponentLink1URL: http://www.onsemi.com/; ComponentLink2Description: Datasheet; ComponentLink2URL: http://www.onsemi.cn/pub_link/Collateral/1N5333B-D.PDF; ComponentLink3Description: Package Specification; ComponentLink3URL: http://www.onsemi.cn/pub_link/Collateral/017AA.PDF
footprint ONSC-SURMETIC40-2-017AA-01 (AXIAL, 2-Leads, Diameter 3.49mm)
pins: 1 K, 2 A

## 1N5350BRLG
designator D?
5 W Zener Voltage Regulator, 2-Pin Surmetic(TM) 40, Pb-Free, Tape and Reel; Manufacturer: On Semiconductor; PartNumber: 1N5350BRLG; P Max (W): 5; VZ Typ (V): 13; DatasheetVersion: Rev. 14; PackageVersion: Rev. O, 09/2005; PackageReference: SURMETIC40-2-017AA-01; PackageDescription: 2-Pin, Axial Lead, Diameter 3.49 mm; Supplier 1: Digi-Key; Supplier Part Number 1: 1N5350BRLGOSTR-ND; Supplier 2: Digi-Key; Supplier Part Number 2: 1N5350BRLGOSCT-ND; Supplier 3: Farnell; Supplier Part Number 3: 2317471; Supplier 4: Farnell; Supplier Part Number 4: 2369367; Supplier 5: Newark; Supplier Part Number 5: 42K2877; Supplier 6: Newark; Supplier Part Number 6: 10N9627; Supplier 7: Mouser; Supplier Part Number 7: 863-1N5350BRLG; Packing: Tape and Reel; RoHS: Pb-Free; Mounting Technology: Through Hole; ComponentLink1Description: Manufacturer URL; ComponentLink1URL: http://www.onsemi.com/; ComponentLink2Description: Datasheet; ComponentLink2URL: http://www.onsemi.cn/pub_link/Collateral/1N5333B-D.PDF; ComponentLink3Description: Package Specification; ComponentLink3URL: http://www.onsemi.cn/pub_link/Collateral/017AA.PDF
footprint ONSC-SURMETIC40-2-017AA-01 (AXIAL, 2-Leads, Diameter 3.49mm)
pins: 1 K, 2 A

## 1N5351BG
designator D?
5 W Zener Voltage Regulator, 2-Pin Surmetic(TM) 40, Pb-Free, Bulk Box; Manufacturer: On Semiconductor; PartNumber: 1N5351BG; P Max (W): 5; VZ Typ (V): 14; DatasheetVersion: Rev. 14; PackageVersion: Rev. O, 09/2005; PackageReference: SURMETIC40-2-017AA-01; PackageDescription: 2-Pin, Axial Lead, Diameter 3.49 mm; Supplier 1: Digi-Key; Supplier Part Number 1: 1N5351BGOS-ND; Supplier 2: Farnell; Supplier Part Number 2: 9558098; Supplier 3: Newark; Supplier Part Number 3: 42K2878; Supplier 4: Mouser; Supplier Part Number 4: 863-1N5351BG; Packing: Bulk Box; RoHS: Pb-Free; Mounting Technology: Through Hole; ComponentLink1Description: Manufacturer URL; ComponentLink1URL: http://www.onsemi.com/; ComponentLink2Description: Datasheet; ComponentLink2URL: http://www.onsemi.cn/pub_link/Collateral/1N5333B-D.PDF; ComponentLink3Description: Package Specification; ComponentLink3URL: http://www.onsemi.cn/pub_link/Collateral/017AA.PDF
footprint ONSC-SURMETIC40-2-017AA-01 (AXIAL, 2-Leads, Diameter 3.49mm)
pins: 1 K, 2 A

## 1N5351BRLG
designator D?
5 W Zener Voltage Regulator, 2-Pin Surmetic(TM) 40, Pb-Free, Tape and Reel; Manufacturer: On Semiconductor; PartNumber: 1N5351BRLG; P Max (W): 5; VZ Typ (V): 14; DatasheetVersion: Rev. 14; PackageVersion: Rev. O, 09/2005; PackageReference: SURMETIC40-2-017AA-01; PackageDescription: 2-Pin, Axial Lead, Diameter 3.49 mm; Supplier 1: Digi-Key; Supplier Part Number 1: 1N5351BRLGOSTR-ND; Supplier 2: Digi-Key; Supplier Part Number 2: 1N5351BRLGOSCT-ND; Supplier 3: Farnell; Supplier Part Number 3: 2369368; Supplier 4: Newark; Supplier Part Number 4: 10N9628; Supplier 5: Mouser; Supplier Part Number 5: 863-1N5351BRLG; Packing: Tape and Reel; RoHS: Pb-Free; Mounting Technology: Through Hole; ComponentLink1Description: Manufacturer URL; ComponentLink1URL: http://www.onsemi.com/; ComponentLink2Description: Datasheet; ComponentLink2URL: http://www.onsemi.cn/pub_link/Collateral/1N5333B-D.PDF; ComponentLink3Description: Package Specification; ComponentLink3URL: http://www.onsemi.cn/pub_link/Collateral/017AA.PDF
footprint ONSC-SURMETIC40-2-017AA-01 (AXIAL, 2-Leads, Diameter 3.49mm)
pins: 1 K, 2 A

## 1N5352BG
designator D?
5 W Zener Voltage Regulator, 2-Pin Surmetic(TM) 40, Pb-Free, Bulk Box; Manufacturer: On Semiconductor; PartNumber: 1N5352BG; P Max (W): 5; VZ Typ (V): 15; DatasheetVersion: Rev. 14; PackageVersion: Rev. O, 09/2005; PackageReference: SURMETIC40-2-017AA-01; PackageDescription: 2-Pin, Axial Lead, Diameter 3.49 mm; Supplier 1: Digi-Key; Supplier Part Number 1: 1N5352BGOS-ND; Supplier 2: Farnell; Supplier Part Number 2: 9558101; Supplier 3: Newark; Supplier Part Number 3: 61K2022; Supplier 4: Mouser; Supplier Part Number 4: 863-1N5352BG; Packing: Bulk Box; RoHS: Pb-Free; Mounting Technology: Through Hole; ComponentLink1Description: Manufacturer URL; ComponentLink1URL: http://www.onsemi.com/; ComponentLink2Description: Datasheet; ComponentLink2URL: http://www.onsemi.cn/pub_link/Collateral/1N5333B-D.PDF; ComponentLink3Description: Package Specification; ComponentLink3URL: http://www.onsemi.cn/pub_link/Collateral/017AA.PDF
footprint ONSC-SURMETIC40-2-017AA-01 (AXIAL, 2-Leads, Diameter 3.49mm)
pins: 1 K, 2 A

## 1N5352BRLG
designator D?
5 W Zener Voltage Regulator, 2-Pin Surmetic(TM) 40, Pb-Free, Tape and Reel; Manufacturer: On Semiconductor; PartNumber: 1N5352BRLG; P Max (W): 5; VZ Typ (V): 15; DatasheetVersion: Rev. 14; PackageVersion: Rev. O, 09/2005; PackageReference: SURMETIC40-2-017AA-01; PackageDescription: 2-Pin, Axial Lead, Diameter 3.49 mm; Supplier 1: Digi-Key; Supplier Part Number 1: 1N5352BRLGOSTR-ND; Supplier 2: Digi-Key; Supplier Part Number 2: 1N5352BRLGOSCT-ND; Supplier 3: Farnell; Supplier Part Number 3: 1705766; Supplier 4: Newark; Supplier Part Number 4: 10N9735; Supplier 5: Newark; Supplier Part Number 5: 42K2880; Supplier 6: Mouser; Supplier Part Number 6: 863-1N5352BRLG; Packing: Tape and Reel; RoHS: Pb-Free; Mounting Technology: Through Hole; ComponentLink1Description: Manufacturer URL; ComponentLink1URL: http://www.onsemi.com/; ComponentLink2Description: Datasheet; ComponentLink2URL: http://www.onsemi.cn/pub_link/Collateral/1N5333B-D.PDF; ComponentLink3Description: Package Specification; ComponentLink3URL: http://www.onsemi.cn/pub_link/Collateral/017AA.PDF
footprint ONSC-SURMETIC40-2-017AA-01 (AXIAL, 2-Leads, Diameter 3.49mm)
pins: 1 K, 2 A

## 1N5353BG
designator D?
5 W Zener Voltage Regulator, 2-Pin Surmetic(TM) 40, Pb-Free, Bulk Box; Manufacturer: On Semiconductor; PartNumber: 1N5353BG; P Max (W): 5; VZ Typ (V): 16; DatasheetVersion: Rev. 14; PackageVersion: Rev. O, 09/2005; PackageReference: SURMETIC40-2-017AA-01; PackageDescription: 2-Pin, Axial Lead, Diameter 3.49 mm; Supplier 1: Digi-Key; Supplier Part Number 1: 1N5353BGOS-ND; Supplier 2: Farnell; Supplier Part Number 2: 9558110; Supplier 3: Newark; Supplier Part Number 3: 42K2881; Supplier 4: Mouser; Supplier Part Number 4: 863-1N5353BG; Packing: Bulk Box; RoHS: Pb-Free; Mounting Technology: Through Hole; ComponentLink1Description: Manufacturer URL; ComponentLink1URL: http://www.onsemi.com/; ComponentLink2Description: Datasheet; ComponentLink2URL: http://www.onsemi.cn/pub_link/Collateral/1N5333B-D.PDF; ComponentLink3Description: Package Specification; ComponentLink3URL: http://www.onsemi.cn/pub_link/Collateral/017AA.PDF
footprint ONSC-SURMETIC40-2-017AA-01 (AXIAL, 2-Leads, Diameter 3.49mm)
pins: 1 K, 2 A

## 1N5353BRLG
designator D?
5 W Zener Voltage Regulator, 2-Pin Surmetic(TM) 40, Pb-Free, Tape and Reel; Manufacturer: On Semiconductor; PartNumber: 1N5353BRLG; P Max (W): 5; VZ Typ (V): 16; DatasheetVersion: Rev. 14; PackageVersion: Rev. O, 09/2005; PackageReference: SURMETIC40-2-017AA-01; PackageDescription: 2-Pin, Axial Lead, Diameter 3.49 mm; Supplier 1: Digi-Key; Supplier Part Number 1: 1N5353BRLGOSTR-ND; Supplier 2: Digi-Key; Supplier Part Number 2: 1N5353BRLGOSCT-ND; Supplier 3: Farnell; Supplier Part Number 3: 2369371; Supplier 4: Newark; Supplier Part Number 4: 42K2882; Supplier 5: Newark; Supplier Part Number 5: 10N9629; Supplier 6: Mouser; Supplier Part Number 6: 863-1N5353BRLG; Packing: Tape and Reel; RoHS: Pb-Free; Mounting Technology: Through Hole; ComponentLink1Description: Manufacturer URL; ComponentLink1URL: http://www.onsemi.com/; ComponentLink2Description: Datasheet; ComponentLink2URL: http://www.onsemi.cn/pub_link/Collateral/1N5333B-D.PDF; ComponentLink3Description: Package Specification; ComponentLink3URL: http://www.onsemi.cn/pub_link/Collateral/017AA.PDF
footprint ONSC-SURMETIC40-2-017AA-01 (AXIAL, 2-Leads, Diameter 3.49mm)
pins: 1 K, 2 A

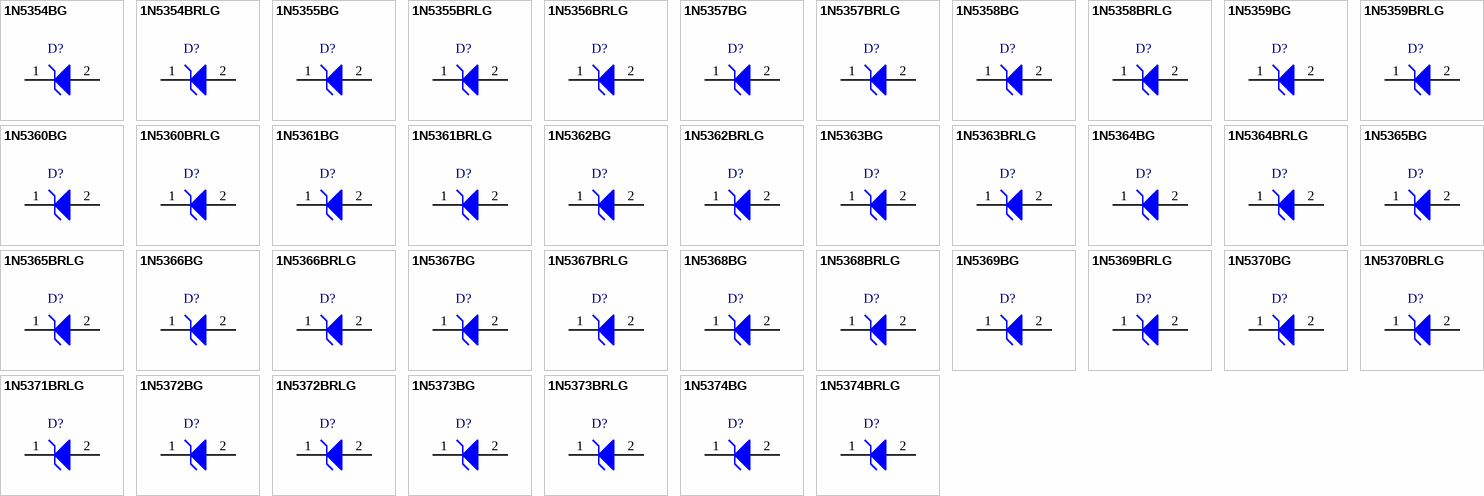
[diagram p1: symbols 1N5354BG to 1N5374BRLG]

## 1N5354BG
designator D?
5 W Zener Voltage Regulator, 2-Pin Surmetic(TM) 40, Pb-Free, Bulk Box; Manufacturer: On Semiconductor; PartNumber: 1N5354BG; P Max (W): 5; VZ Typ (V): 17; DatasheetVersion: Rev. 14; PackageVersion: Rev. O, 09/2005; PackageReference: SURMETIC40-2-017AA-01; PackageDescription: 2-Pin, Axial Lead, Diameter 3.49 mm; Supplier 1: Digi-Key; Supplier Part Number 1: 1N5354BGOS-ND; Supplier 2: Farnell; Supplier Part Number 2: 9558128; Supplier 3: Newark; Supplier Part Number 3: 42K2883; Supplier 4: Mouser; Supplier Part Number 4: 863-1N5354BG; Packing: Bulk Box; RoHS: Pb-Free; Mounting Technology: Through Hole; ComponentLink1Description: Manufacturer URL; ComponentLink1URL: http://www.onsemi.com/; ComponentLink2Description: Datasheet; ComponentLink2URL: http://www.onsemi.cn/pub_link/Collateral/1N5333B-D.PDF; ComponentLink3Description: Package Specification; ComponentLink3URL: http://www.onsemi.cn/pub_link/Collateral/017AA.PDF
footprint ONSC-SURMETIC40-2-017AA-01 (AXIAL, 2-Leads, Diameter 3.49mm)
pins: 1 K, 2 A

## 1N5354BRLG
designator D?
5 W Zener Voltage Regulator, 2-Pin Surmetic(TM) 40, Pb-Free, Tape and Reel; Manufacturer: On Semiconductor; PartNumber: 1N5354BRLG; P Max (W): 5; VZ Typ (V): 17; DatasheetVersion: Rev. 14; PackageVersion: Rev. O, 09/2005; PackageReference: SURMETIC40-2-017AA-01; PackageDescription: 2-Pin, Axial Lead, Diameter 3.49 mm; Supplier 1: Digi-Key; Supplier Part Number 1: 1N5354BRLGOSTR-ND; Supplier 2: Digi-Key; Supplier Part Number 2: 1N5354BRLGOSCT-ND; Supplier 3: Mouser; Supplier Part Number 3: 863-1N5354BRLG; Packing: Tape and Reel; RoHS: Pb-Free; Mounting Technology: Through Hole; ComponentLink1Description: Manufacturer URL; ComponentLink1URL: http://www.onsemi.com/; ComponentLink2Description: Datasheet; ComponentLink2URL: http://www.onsemi.cn/pub_link/Collateral/1N5333B-D.PDF; ComponentLink3Description: Package Specification; ComponentLink3URL: http://www.onsemi.cn/pub_link/Collateral/017AA.PDF
footprint ONSC-SURMETIC40-2-017AA-01 (AXIAL, 2-Leads, Diameter 3.49mm)
pins: 1 K, 2 A

## 1N5355BG
designator D?
5 W Zener Voltage Regulator, 2-Pin Surmetic(TM) 40, Pb-Free, Bulk Box; Manufacturer: On Semiconductor; PartNumber: 1N5355BG; P Max (W): 5; VZ Typ (V): 18; DatasheetVersion: Rev. 14; PackageVersion: Rev. O, 09/2005; PackageReference: SURMETIC40-2-017AA-01; PackageDescription: 2-Pin, Axial Lead, Diameter 3.49 mm; Supplier 1: Digi-Key; Supplier Part Number 1: 1N5355BGOS-ND; Supplier 2: Farnell; Supplier Part Number 2: 9558136; Supplier 3: Newark; Supplier Part Number 3: 61K2023; Supplier 4: Mouser; Supplier Part Number 4: 863-1N5355BG; Packing: Bulk Box; RoHS: Pb-Free; Mounting Technology: Through Hole; ComponentLink1Description: Manufacturer URL; ComponentLink1URL: http://www.onsemi.com/; ComponentLink2Description: Datasheet; ComponentLink2URL: http://www.onsemi.cn/pub_link/Collateral/1N5333B-D.PDF; ComponentLink3Description: Package Specification; ComponentLink3URL: http://www.onsemi.cn/pub_link/Collateral/017AA.PDF
footprint ONSC-SURMETIC40-2-017AA-01 (AXIAL, 2-Leads, Diameter 3.49mm)
pins: 1 K, 2 A

## 1N5355BRLG
designator D?
5 W Zener Voltage Regulator, 2-Pin Surmetic(TM) 40, Pb-Free, Tape and Reel; Manufacturer: On Semiconductor; PartNumber: 1N5355BRLG; P Max (W): 5; VZ Typ (V): 18; DatasheetVersion: Rev. 14; PackageVersion: Rev. O, 09/2005; PackageReference: SURMETIC40-2-017AA-01; PackageDescription: 2-Pin, Axial Lead, Diameter 3.49 mm; Supplier 1: Digi-Key; Supplier Part Number 1: 1N5355BRLGOSTR-ND; Supplier 2: Digi-Key; Supplier Part Number 2: 1N5355BRLGOSCT-ND; Supplier 3: Farnell; Supplier Part Number 3: 2317466; Supplier 4: Newark; Supplier Part Number 4: 42K2885; Supplier 5: Mouser; Supplier Part Number 5: 863-1N5355BRLG; Packing: Tape and Reel; RoHS: Pb-Free; Mounting Technology: Through Hole; ComponentLink1Description: Manufacturer URL; ComponentLink1URL: http://www.onsemi.com/; ComponentLink2Description: Datasheet; ComponentLink2URL: http://www.onsemi.cn/pub_link/Collateral/1N5333B-D.PDF; ComponentLink3Description: Package Specification; ComponentLink3URL: http://www.onsemi.cn/pub_link/Collateral/017AA.PDF
footprint ONSC-SURMETIC40-2-017AA-01 (AXIAL, 2-Leads, Diameter 3.49mm)
pins: 1 K, 2 A

## 1N5356BRLG
designator D?
5 W Zener Voltage Regulator, 2-Pin Surmetic(TM) 40, Pb-Free, Tape and Reel; Manufacturer: On Semiconductor; PartNumber: 1N5356BRLG; P Max (W): 5; VZ Typ (V): 19; DatasheetVersion: Rev. 14; PackageVersion: Rev. O, 09/2005; PackageReference: SURMETIC40-2-017AA-01; PackageDescription: 2-Pin, Axial Lead, Diameter 3.49 mm; Supplier 1: Digi-Key; Supplier Part Number 1: 1N5356BRLG-ND; Supplier 2: Newark; Supplier Part Number 2: 42K2887; Supplier 3: Mouser; Supplier Part Number 3: 863-1N5356BRLG; Packing: Tape and Reel; RoHS: Pb-Free; Mounting Technology: Through Hole; ComponentLink1Description: Manufacturer URL; ComponentLink1URL: http://www.onsemi.com/; ComponentLink2Description: Datasheet; ComponentLink2URL: http://www.onsemi.cn/pub_link/Collateral/1N5333B-D.PDF; ComponentLink3Description: Package Specification; ComponentLink3URL: http://www.onsemi.cn/pub_link/Collateral/017AA.PDF
footprint ONSC-SURMETIC40-2-017AA-01 (AXIAL, 2-Leads, Diameter 3.49mm)
pins: 1 K, 2 A